# Altium schematic symbol library SCH - MCU - STM32 - ST MICROELECTRONICS STM32WB15CCYX WLCSP49.SchLib: 1 symbol
Pins are listed as number, name and electrical type; pins without a type are passive.

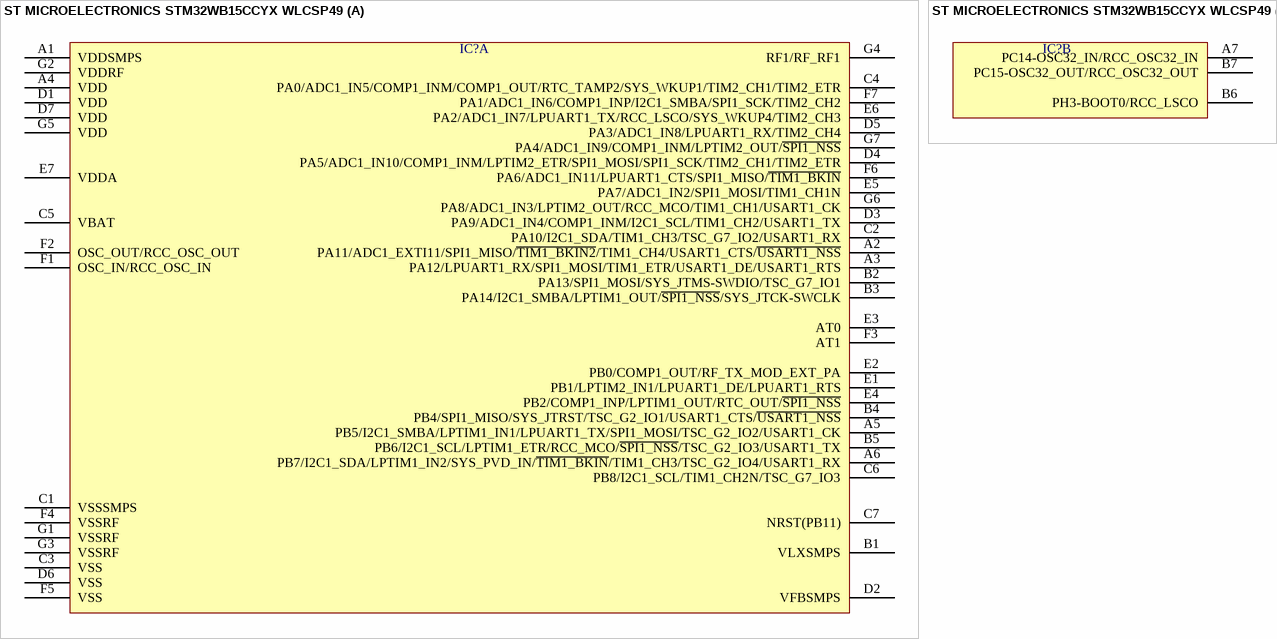
[diagram p0: symbol ST MICROELECTRONICS STM32WB15CCYX WLCSP49]

## ST MICROELECTRONICS STM32WB15CCYX WLCSP49
designator IC?  (value not drawn)
part A pins: A1 VDDSMPS, A2 PA11/ADC1_EXTI11/SPI1_MISO/~{TIM1_BKIN2}/TIM1_CH4/USART1_CTS/~{USART1_NSS}, A3 PA12/LPUART1_RX/SPI1_MOSI/TIM1_ETR/USART1_DE/USART1_RTS, A4 VDD, A5 PB5/I2C1_SMBA/LPTIM1_IN1/LPUART1_TX/SPI1_MOSI/TSC_G2_IO2/USART1_CK, A6 PB7/I2C1_SDA/LPTIM1_IN2/SYS_PVD_IN/~{TIM1_BKIN}/TIM1_CH3/TSC_G2_IO4/USART1_RX, B1 VLXSMPS, B2 PA13/SPI1_MOSI/SYS_JTMS-SWDIO/TSC_G7_IO1, B3 PA14/I2C1_SMBA/LPTIM1_OUT/~{SPI1_NSS}/SYS_JTCK-SWCLK, B4 PB4/SPI1_MISO/SYS_JTRST/TSC_G2_IO1/USART1_CTS/~{USART1_NSS}, B5 PB6/I2C1_SCL/LPTIM1_ETR/RCC_MCO/~{SPI1_NSS}/TSC_G2_IO3/USART1_TX, C1 VSSSMPS, C2 PA10/I2C1_SDA/TIM1_CH3/TSC_G7_IO2/USART1_RX, C3 VSS, C4 PA0/ADC1_IN5/COMP1_INM/COMP1_OUT/RTC_TAMP2/SYS_WKUP1/TIM2_CH1/TIM2_ETR, C5 VBAT, C6 PB8/I2C1_SCL/TIM1_CH2N/TSC_G7_IO3, C7 NRST(PB11), D1 VDD, D2 VFBSMPS, D3 PA9/ADC1_IN4/COMP1_INM/I2C1_SCL/TIM1_CH2/USART1_TX, D4 PA5/ADC1_IN10/COMP1_INM/LPTIM2_ETR/SPI1_MOSI/SPI1_SCK/TIM2_CH1/TIM2_ETR, D5 PA3/ADC1_IN8/LPUART1_RX/TIM2_CH4, D6 VSS, D7 VDD, E1 PB1/LPTIM2_IN1/LPUART1_DE/LPUART1_RTS, E2 PB0/COMP1_OUT/RF_TX_MOD_EXT_PA, E3 AT0, E4 PB2/COMP1_INP/LPTIM1_OUT/RTC_OUT/~{SPI1_NSS}, E5 PA7/ADC1_IN2/SPI1_MOSI/TIM1_CH1N, E6 PA2/ADC1_IN7/LPUART1_TX/RCC_LSCO/SYS_WKUP4/TIM2_CH3, E7 VDDA, F1 OSC_IN/RCC_OSC_IN, F2 OSC_OUT/RCC_OSC_OUT, F3 AT1, F4 VSSRF, F5 VSS, F6 PA6/ADC1_IN11/LPUART1_CTS/SPI1_MISO/~{TIM1_BKIN}, F7 PA1/ADC1_IN6/COMP1_INP/I2C1_SMBA/SPI1_SCK/TIM2_CH2, G1 VSSRF, G2 VDDRF, G3 VSSRF, G4 RF1/RF_RF1, G5 VDD, G6 PA8/ADC1_IN3/LPTIM2_OUT/RCC_MCO/TIM1_CH1/USART1_CK, G7 PA4/ADC1_IN9/COMP1_INM/LPTIM2_OUT/~{SPI1_NSS}
part B pins: A7 PC14-OSC32_IN/RCC_OSC32_IN, B6 PH3-BOOT0/RCC_LSCO, B7 PC15-OSC32_OUT/RCC_OSC32_OUT